# EAGLE library part JTAG-BUCHSE (library JTAG)
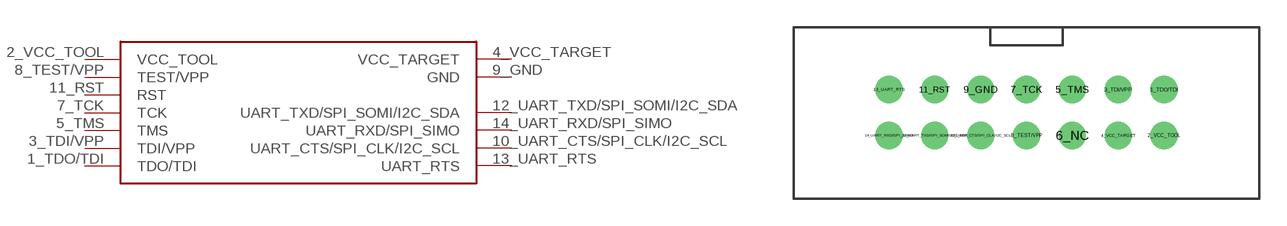
[diagram p0: symbol with the pads of BUCHSE; footprint BUCHSE]

Designator prefix -

## JTAG-BUCHSE  [BUCHSE]
1_TDO/TDI  TDO/TDI
2_VCC_TOOL  VCC_TOOL
3_TDI/VPP  TDI/VPP
4_VCC_TARGET  VCC_TARGET
5_TMS  TMS
7_TCK  TCK
8_TEST/VPP  TEST/VPP
9_GND  GND
10_UART_CTS/SPI_CLK/I2C_SCL  UART_CTS/SPI_CLK/I2C_SCL
11_RST  RST
12_UART_TXD/SPI_SOMI/I2C_SDA  UART_TXD/SPI_SOMI/I2C_SDA
13_UART_RTS  UART_RTS
14_UART_RXD/SPI_SIMO  UART_RXD/SPI_SIMO

## Footprint BUCHSE (pad centres in mm)
drill 1: 1_TDO/TDI 7.62,2.54; 2_VCC_TOOL 7.62,0; 3_TDI/VPP 5.08,2.54; 4_VCC_TARGET 5.08,0; 5_TMS 2.54,2.54; 6_NC 2.54,0; 7_TCK 0,2.54; 8_TEST/VPP 0,0; 9_GND -2.54,2.54; 10_UART_CTS/SPI_CLK/I2C_SCL -2.54,0; 11_RST -5.08,2.54; 12_UART_TXD/SPI_SOMI/I2C_SDA -5.08,0; 13_UART_RTS -7.62,2.54; 14_UART_RXD/SPI_SIMO -7.62,0